# Altium footprint library new-version.PcbLib: 241 footprints (part 7 of 16)
Each footprint in its own frame and in the unit in brackets; x right, y up, seen from the top. Pads: shape width x height; smd on the part's side, far side on the other; paste and mask are expansions set on the pad; w line width, h text height; cw(c..) or ccw(c..) is an arc to the next point about the centre after c.
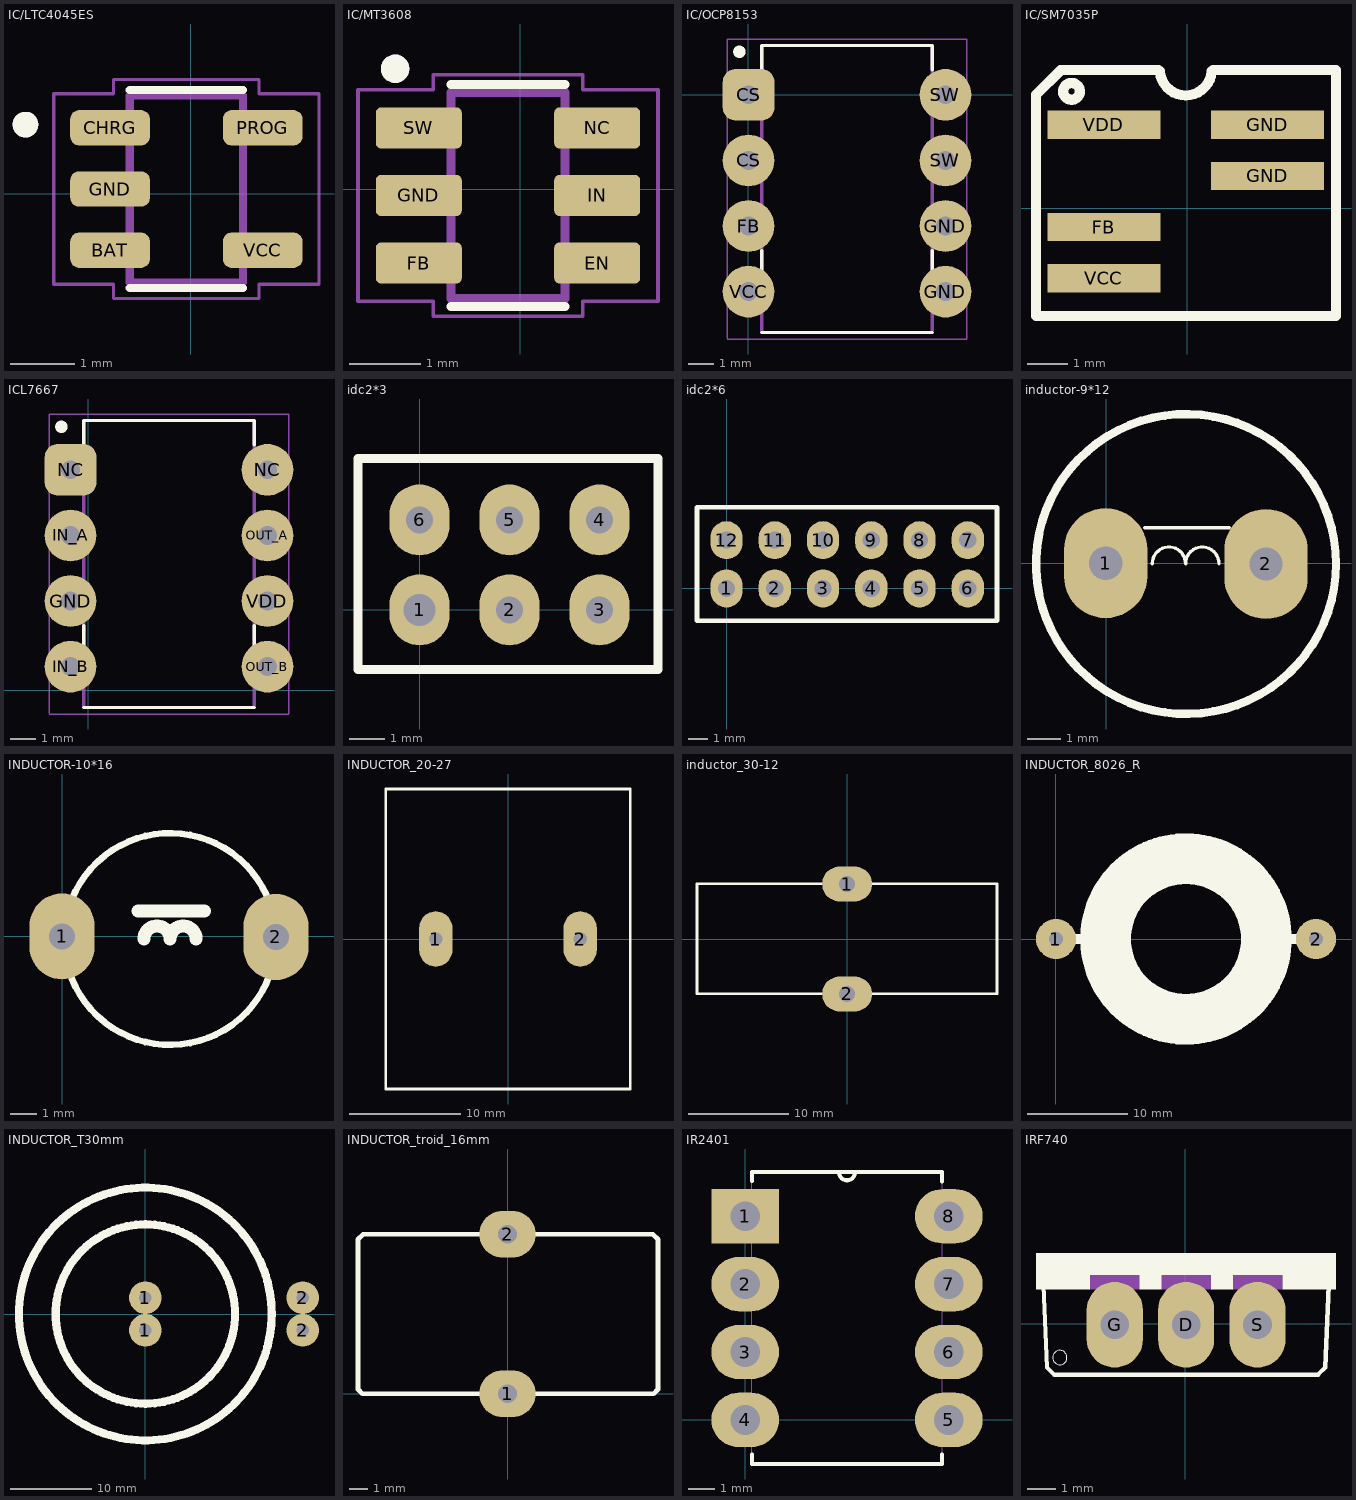
[diagram p6: the footprints below, top view; thin cyan lines are the x and y axes]

## IC/LTC4045ES [mm]
pads (5):
  rrect50% 1.24x0.55 smd: BAT(-1.256,-0.877) CHRG(-1.256,1.023) GND(-1.256,0.073) PROG(1.114,1.023) VCC(1.114,-0.877)
Top Overlay:
  circle w0.2: c-2.571,1.073 r0.1
  lines w0.127: -0.951,-1.466 0.809,-1.466 ; -0.951,1.612 0.809,1.612
Mechanical 13:
  circle w0.2: c-2.571,1.073 r0.1
  lines w0.127: -0.951,-1.377 0.809,-1.377 0.809,1.523 -0.951,1.523 -0.951,-1.377
Mechanical 15:
  lines w0.05: -2.131,-1.407 -1.201,-1.407 -1.201,-1.627 1.059,-1.627 1.059,-1.407 1.989,-1.407 1.989,1.553 1.059,1.553 1.059,1.773 -1.201,1.773 -1.201,1.553 -2.131,1.553 -2.131,-1.407

## IC/MT3608 [mm]
pads (6):
  rrect25% 1.21x0.58 smd: EN(1.082,-1.037) FB(-1.428,-1.037) GND(-1.428,-0.087) IN(1.082,-0.087) NC(1.082,0.863) SW(-1.428,0.863)
Top Overlay:
  circle w0.2: c-1.762,1.695 r0.1
  lines w0.127: -0.973,-1.647 0.627,-1.647 ; -0.973,1.473 0.627,1.473
Mechanical 13:
  circle w0.2: c-1.762,1.695 r0.1
  lines w0.127: -0.973,-1.537 -0.973,1.363 0.627,1.363 0.627,-1.537 -0.973,-1.537
Mechanical 15:
  lines w0.05: -2.283,-1.577 -2.283,1.403 -1.223,1.403 -1.223,1.613 0.877,1.613 0.877,1.403 1.937,1.403 1.937,-1.577 0.877,-1.577 0.877,-1.787 -1.223,-1.787 -1.223,-1.577 -2.283,-1.577

## IC/OCP8153 [mm]
pads (8):
  round 2 hole 0.73: CS(0.016,-2.535) FB(0.016,-5.075) GND(7.636,-7.615) GND(7.636,-5.075) SW(7.636,-2.535) SW(7.636,0.005) VCC(0.016,-7.615)
  rrect50% 2x2 hole 0.73: CS(0.016,0.005)
Top Overlay:
  circle w0.24: c-0.339,1.67 r0.12
  lines w0.127: 0.526,-9.198 7.126,-9.198 ; 0.526,-6.985 0.526,-6.035 ; 0.526,0.965 0.526,1.915 7.126,1.915 7.126,0.965 ; 7.126,-6.985 7.126,-6.035
Mechanical 13:
  lines w0.127: 0.526,-9.198 7.126,-9.198 ; 0.526,-9.148 0.526,1.915 7.126,1.915 7.126,-9.12
Mechanical 15:
  lines w0.05: -0.804,-9.448 8.456,-9.448 ; -0.804,-9.427 -0.804,2.165 8.456,2.165 8.456,-9.436

## IC/SM7035P [mm]
pads (5):
  rect 2.8x0.7 smd: FB(-2.065,-0.467) GND(1.999,0.803) GND(1.999,2.073) VCC(-2.065,-1.737) VDD(-2.065,2.073)
Top Overlay:
  region: -0.703,3.679
  region: -0.733,3.799
  lines w0.254: -2.663,2.927 ccw(c-2.87,2.905) -2.662,2.905 ; -0.707,3.432 -3.14,3.432 -3.752,2.82 -3.752,-2.676 3.699,-2.676 3.699,3.432 0.641,3.432 ; -0.676,3.402 ccw(c-0.032,3.449) 0.612,3.403
3D body "ic_power.stp": height 1.12, standoff -0.13, extent -2.371,-2.118 2.328,2.482

## ICL7667 [mm]
pads (8):
  round 2 hole 0.73: GND(-0.68,3.445) IN_A(-0.68,5.985) IN_B(-0.68,0.905) NC(6.94,8.525) OUT_A(6.94,5.985) OUT_B(6.94,0.905) VDD(6.94,3.445)
  rrect50% 2x2 hole 0.73: NC(-0.68,8.525)
Top Overlay:
  circle w0.24: c-1.035,10.191 r0.12
  lines w0.127: -0.17,-0.677 6.43,-0.677 ; -0.17,1.535 -0.17,2.485 ; -0.17,9.485 -0.17,10.435 6.43,10.435 6.43,9.485 ; 6.43,1.535 6.43,2.485
Mechanical 13:
  lines w0.127: -0.17,-0.677 6.43,-0.677 ; -0.17,-0.628 -0.17,10.435 6.43,10.435 6.43,-0.6
Mechanical 15:
  lines w0.05: -1.5,-0.927 7.76,-0.927 ; -1.5,-0.906 -1.5,10.685 7.76,10.685 7.76,-0.916

## idc2*3 [mm]
pads (6):
  oval 1.7x2 hole 0.9: 1(0,0)
  oval 1.7x2 hole 0.762: 2(2.54,0) 3(5.08,0) 4(5.08,2.54) 5(2.54,2.54) 6(0,2.54)
Top Overlay:
  lines w0.254: -1.739,4.273 -1.739,-1.682 6.731,-1.682 6.731,4.273 -1.678,4.273

## idc2*6 [mm]
pads (12):
  oval 1.7x2 hole 0.9: 1(0,0) 2(2.54,0) 3(5.08,0) 4(7.62,0) 5(10.16,0) 6(12.7,0) 7(12.7,2.54) 8(10.16,2.54) 9(7.62,2.54) 10(5.08,2.54) 11(2.54,2.54) 12(0,2.54)
Top Overlay:
  lines w0.254: -1.554,-1.705 -1.554,4.273 14.239,4.273 14.239,-1.705 -1.554,-1.705

## inductor-9*12 [mm]
pads (2):
  oval 2.5x3.3 hole 1: 1(-0.01,0) 2(4.8,-0.025)
Top Overlay:
  circle w0.254: c2.4,-0.025 r4.5
  lines w0.1: 1.155,1.066 3.705,1.066 ; 1.388,0.01 1.388,-0.015 cw(c1.888,-0.015) 2.388,-0.015 cw(c2.888,-0.015) 3.388,-0.015
3D body "self-9-12.stp": height 12, standoff -4, extent -2.73,-5.09 7.27,4.91

## INDUCTOR-10*16 [mm]
pads (2):
  oval 2.5x3.3 hole 1: 1(0,0) 2(8.2,-0.025)
Top Overlay:
  circle w0.254: c4.14,-0.102 r4.061
  lines w0.5: 2.908,0.98 5.457,0.98 ; 3.14,-0.102 cw(c3.64,-0.102) 4.14,-0.102 cw(c4.64,-0.102) 5.14,-0.102

## INDUCTOR_20-27 [mm]
pads (2):
  oval 3x5 hole 1.2: 1(-6.5,0) 2(6.5,0)
Top Overlay:
  lines w0.254: -11,-13.5 11,-13.5 11,13.5 -11,13.5 -11,-13.5

## inductor_30-12 [mm]
pads (2):
  oval 5x3.5 hole 1.6: 1(0,5.5) 2(0,-5.5)
Top Overlay:
  lines w0.254: -15.011,-5.488 14.989,-5.488 14.989,5.512 -15.011,5.512 -15.011,-5.488

## INDUCTOR_8026_R [mm]
pads (2):
  round 4 hole 1.4: 1(0,0) 2(26,0)
Top Overlay:
  circle w0.254: c13,0 r10.444
  circle w5: c13,0 r8
  lines w1: 0,0 4.394,0 ; 21.387,0 26,0

## INDUCTOR_T30mm [mm]
pads (4):
  round 4 hole 1.5: 1(0,-2) 1(0,2) 2(19.3,-2) 2(19.3,2)
Top Overlay:
  circle w1: c0,0 r11
  circle w1: c0,0 r15.5

## INDUCTOR_troid_16mm [mm]
pads (2):
  oval 3x2.5 hole 1: 1(0,0) 2(0,8.5)
Top Overlay:
  lines w0.254: 0,0 7.797,0 8.026,0.23 8.026,8.23 7.756,8.5 0,8.5 -7.703,8.5 -7.974,8.23 -7.974,0.23 -7.744,0 0.229,0

## IR2401 [mil]
pads (8):
  rect 100x80 hole 44: 1(0,300)
  oval 100x80 hole 44: 2(0,200) 3(0,100) 4(0,0) 5(300,0) 6(300,100) 7(300,200) 8(300,300)
Top Overlay:
  lines w6: 10,-51 10,-65 290,-65 290,-51 ; 10,352 10,365 138,365 ; 290,351 290,365 162,365 ; 138,365 ccw(c150,365) 162,365 ; 138,365 162,365
Mechanical 13:
  lines w0: 138,365 ccw(c150,365) 162,365 ; 138,365 10,365 10,-65 290,-65 290,365 162,365 ; 138,365 162,365 ; -22,-22 10,-22 10,22 -22,22 -22,-22 ; -22,78 10,78 10,122 -22,122 -22,78 ; -22,178 10,178 10,222 -22,222 -22,178 ; -22,278 10,278 10,322 -22,322 -22,278 ; 290,-22 322,-22 322,22 290,22 290,-22 ; 290,78 322,78 322,122 290,122 290,78 ; 290,178 322,178 322,222 290,222 290,178 ; 290,278 322,278 322,322 290,322 290,278
3D body "IR2104--3DModel-STEP-56544.STEP": height 210, standoff -160, extent -10.75,-34.5 300.75,354.5

## IRF740 [mil]
pads (3):
  oval 78.74x120 hole 40: D(0.94,-1) G(-99.06,-1) S(100.94,-1)
Top Overlay:
  circle w0: c-176.06,-47 r10
  region: 210.94,48.94 136.08,48.94 136.08,69 210.94,69
  region: 65.94,48.96 35.96,48.96 35.96,69 65.94,69
  region: -34.06,48.91 -64.17,48.91 -64.17,69 -34.06,69
  region: -134.06,48.94 -209.31,48.94 -209.31,69 -134.06,69
  region: 210.94,68.94 -209.46,68.94 -209.46,99 210.94,99
  lines w6: -199.06,54 -194.06,-61 -184.06,-71 185.94,-71 195.94,-61 200.94,54
Mechanical 13:
  region: 135.94,48.98 65.96,48.98 65.96,69 135.94,69
  region: 35.94,48.99 -34.07,48.99 -34.07,69 35.94,69
  region: -64.06,48.94 -134.2,48.94 -134.2,69 -64.06,69
3D body "IRF740.STEP": height 810.24, standoff -327.56, extent -200.64,-71.01 200.94,106.16